# Altium integrated library AD5675BCPZ-REEL7.IntLib: 1 symbol
Pins are listed as number, name and electrical type; pins without a type are passive.

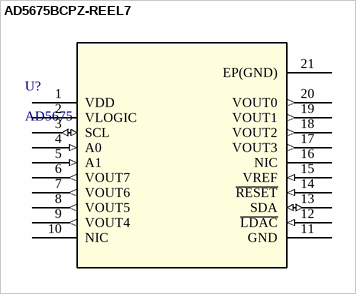
[diagram p0: symbol AD5675BCPZ-REEL7]

## AD5675BCPZ-REEL7
designator U?, comment AD5675
Manufacturer_Part_Number: AD5675BCPZ-REEL7; Vendor: Analog Devices Inc; Built_By: Analog Devices Inc.; RefDes: RefDes; Type: DEV; Value: Value
footprint CP_20_8
pins: 1 VDD (power), 2 VLOGIC (power), 3 SCL (io), 4 A0 (in), 5 A1 (in), 6 VOUT7 (out), 7 VOUT6 (out), 8 VOUT5 (out), 9 VOUT4 (out), 10 NIC, 11 GND, 12 ~{LDAC} (in), 13 SDA (io), 14 ~{RESET} (in), 15 VREF (in), 16 NIC, 17 VOUT3 (out), 18 VOUT2 (out), 19 VOUT1 (out), 20 VOUT0 (out), 21 EP(GND)